# Altium schematic symbol library ucc28180-V03.SchLib: 70 symbols (part 2 of 2)
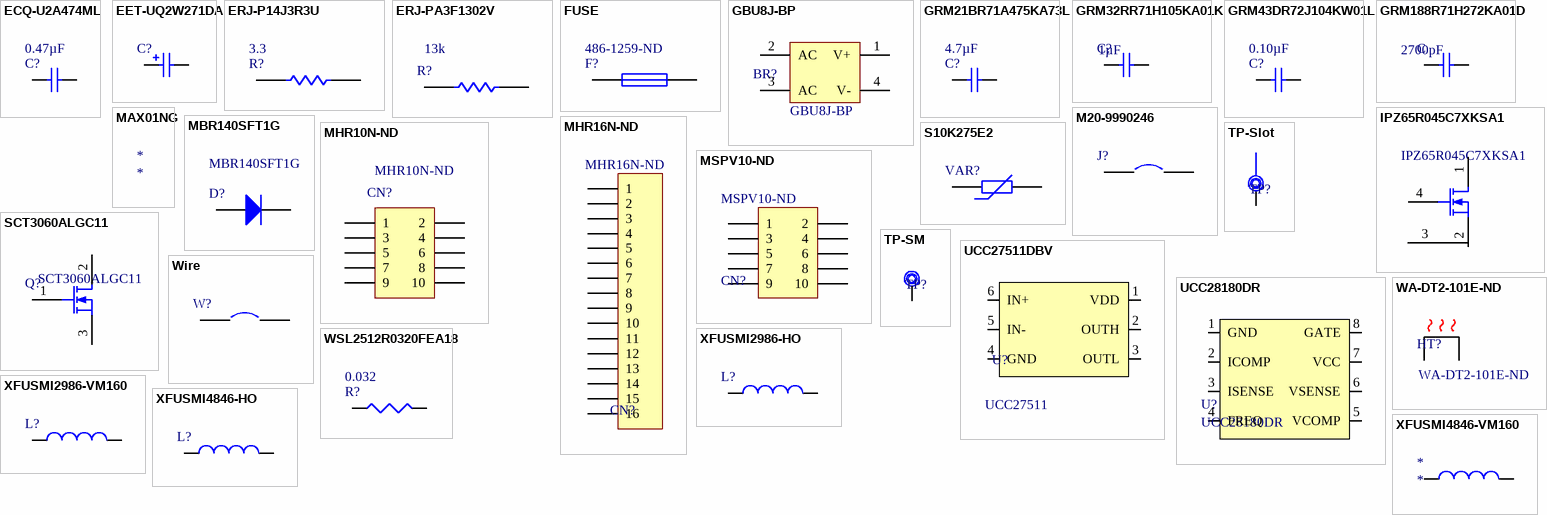
[diagram p2: symbols ECQ-U2A474ML to XFUSMI4846-VM160]

## MHR10N-ND
designator CN?  Supplier Part Number 1: MHR10N-ND  (hidden comment: *)
CONN HEADER 10PS R/A LONG LATCH; Manufacturer: 3M; Manufacturer Part Number: N3793-5302RB; Pitch - Mating: 0.100" (2.54mm); Style: Board to Board or Cable; Shrouding: Shrouded - 4 Wall; Number of Positions: 10; Number of Positions Loaded: All; Contact Length - Mating: 0.240" (6.10mm); Contact Length - Post: 0.112" (2.84mm); Material Flammability Rating: UL94 V-0; Current Rating: 1.75A; Supplier 1: Digi-Key; RoHS: RoHS Compliant; Category: Connectors, Interconnects; Stock 1: 2811; Pricing 1: 1=1.86, 10=1.691, 100=1.449, 500=1.2075, 1000=1.035, 5000=0.9177, 10000=0.897 (USD); Packaging: Bulk; Part Status: Active; Connector Type: Header; Contact Type: Male Pin; Number of Rows: 2; Row Spacing - Mating: 0.100" (2.54mm); Mounting Type: Through Hole, Right Angle; Termination: Solder; Fastening Type: Latch Lock/Eject Hooks, Long; Overall Contact Length: -; Insulation Height: 0.340" (8.64mm); Contact Shape: Square; Contact Finish - Mating: Gold; Contact Finish Thickness - Mating: 30µin (0.76µm); Contact Finish - Post: Tin; Contact Material: Copper Alloy; Insulation Material: Polycyclohexylenedimethylene Terephthalate (PCT), Polyester, Glass Filled; Features: Keying Slot, Mounting Flange; Operating Temperature: -55°C ~ 105°C; Ingress Protection: -; Insulation Color: Black; Voltage Rating: -; Mated Stacking Heights: -; Contact Finish Thickness - Post: 200µin (5.08µm); Applications: -; ComponentLink1URL: http://multimedia.3m.com/mws/media/22448O/3m-four-wall-header-3000-series-100-x-100-ts-0772.pdf; ComponentLink1Description: http://multimedia.3m.com/mws/media/22448O/3m-four-wall-header-3000-series-100-x-100-ts-0772.pdf
footprint 3M15452 (CONN HEADER 10POS DL R/A GOLD)
pins: 1, 2, 3, 4, 5, 6, 7, 8, 9, 10

## MHR16N-ND
designator CN?  Supplier Part Number 1: MHR16N-ND  (hidden comment: *)
CONN HEADER 16PS R/A LONG LATCH; Manufacturer: 3M; Manufacturer Part Number: N3408-5302RB; Pitch - Mating: 0.100" (2.54mm); Style: Board to Board or Cable; Shrouding: Shrouded - 4 Wall; Number of Positions: 16; Number of Positions Loaded: All; Contact Length - Mating: 0.240" (6.10mm); Contact Length - Post: 0.112" (2.84mm); Material Flammability Rating: UL94 V-0; Current Rating: 1.75A; Supplier 1: Digi-Key; RoHS: RoHS Compliant; Category: Connectors, Interconnects; Stock 1: 1152; Pricing 1: 1=2.6, 10=2.496, 100=2.08, 500=1.768, 1000=1.508, 5000=1.352 (USD); Packaging: Tray; Part Status: Active; Connector Type: Header; Contact Type: Male Pin; Number of Rows: 2; Row Spacing - Mating: 0.100" (2.54mm); Mounting Type: Through Hole, Right Angle; Termination: Solder; Fastening Type: Latch Lock/Eject Hooks, Long; Overall Contact Length: -; Insulation Height: 0.340" (8.64mm); Contact Shape: Square; Contact Finish - Mating: Gold; Contact Finish Thickness - Mating: 30µin (0.76µm); Contact Finish - Post: Tin; Contact Material: Copper Alloy; Insulation Material: Polycyclohexylenedimethylene Terephthalate (PCT), Polyester, Glass Filled; Features: Keying Slot, Mounting Flange; Operating Temperature: -55°C ~ 105°C; Ingress Protection: -; Insulation Color: Black; Voltage Rating: -; Mated Stacking Heights: -; Contact Finish Thickness - Post: 200µin (5.08µm); Applications: -; ComponentLink1URL: http://multimedia.3m.com/mws/media/22448O/3m-four-wall-header-3000-series-100-x-100-ts-0772.pdf; ComponentLink1Description: http://multimedia.3m.com/mws/media/22448O/3m-four-wall-header-3000-series-100-x-100-ts-0772.pdf
pins: 1, 2, 3, 4, 5, 6, 7, 8, 9, 10, 11, 12, 13, 14, 15, 16

## MSPV10-ND
designator CN?  Supplier Part Number 1: MSPV10-ND  (hidden comment: *)
CONN SOCKET PCB VERT 10POS .1"; Manufacturer: 3M; Manufacturer Part Number: 8510-4500PL; Connector Type: Receptacle; Style: Board to Board or Cable; Number of Positions: 10; Number of Positions Loaded: All; Pitch - Mating: 0.100" (2.54mm); Contact Length - Post: 0.110" (2.79mm); Material Flammability Rating: UL94 V-0; Current Rating: 1A; Voltage Rating: 1000V; Supplier 1: Digi-Key; RoHS: RoHS Compliant; Category: Connectors, Interconnects; Stock 1: 448; Pricing 1: 1=3.03, 10=2.904, 100=2.42, 500=2.057, 1000=1.7545, 5000=1.573 (USD); Packaging: Bulk; Part Status: Active; Contact Type: Female Socket; Number of Rows: 2; Row Spacing - Mating: 0.100" (2.54mm); Mounting Type: Through Hole; Termination: Kinked Pin, Solder; Fastening Type: Push-Pull; Contact Finish - Mating: Gold; Contact Finish Thickness - Mating: 12µin (0.30µm); Insulation Color: Gray; Insulation Height: 0.425" (10.80mm); Operating Temperature: -55°C ~ 105°C; Contact Finish - Post: Gold; Mated Stacking Heights: -; Ingress Protection: -; Features: Polarizing Key; Applications: -; Insulation Material: Polybutylene Terephthalate (PBT), Glass Filled; Contact Shape: Square; Contact Material: Copper Alloy; Contact Finish Thickness - Post: Flash; ComponentLink1URL: http://multimedia.3m.com/mws/media/22252O/3mtm-100-in-plr-bmskt-100x-100ctrbmp-strt-sldr-tls-ts0413.pdf; ComponentLink1Description: http://multimedia.3m.com/mws/media/22252O/3mtm-100-in-plr-bmskt-100x-100ctrbmp-strt-sldr-tls-ts0413.pdf
footprint MSV10-ND (CONN SOCKET PCB VERT 10POS .1)
pins: 1, 2, 3, 4, 5, 6, 7, 8, 9, 10

## S10K275E2
designator VAR?  (value not drawn)
VARISTOR 430V 3.5KA DISC 10MM; Manufacturer 1: EPCOS (TDK); Manufacturer Part Number 1: S10K275E2; Category 1: Circuit Protection; Varistor Voltage (Min): 387V; Varistor Voltage (Max): 473V; Energy: 55J; Number of Circuits: 1; Maximum AC Volts: 275VAC; Maximum DC Volts: 350VDC; Supplier 1: Digi-Key; Supplier Part Number 1: 495-1433-ND; RoHS 1: RoHS Compliant; Description 1: VARISTOR 430V 3.5KA DISC 10MM; Stock 1: 24715; Pricing 1: 1=0.48, 10=0.4, 100=0.3003, 500=0.22022, 1000=0.17017, 5000=0.14515, 10000=0.13514 (USD); Packaging: Bulk; Part Status: Active; Varistor Voltage (Typ): 430V; Current - Surge: 3.5kA; Mounting Type: Through Hole; Package / Case: Disc 10mm; ComponentLink1URL: http://en.tdk.eu/inf/70/db/var_11/SIOV_Leaded_AdvanceD.pdf; ComponentLink1Description: http://en.tdk.eu/inf/70/db/var_11/SIOV_Leaded_AdvanceD.pdf
footprint S10K275E2 (Varistor)
pins: 1, 2

## SCT3060ALGC11
designator Q?  Manufacturer Part Number 1: SCT3060ALGC11  (hidden comment: *)
MOSFET NCH 650V 39A TO247N; Manufacturer 1: Rohm Semiconductor; Category 1: Discrete Semiconductor Products; FET Type: N-Channel; Current - Continuous Drain (Id) @ 25°C: 39A (Tc); Drive Voltage (Max Rds On,  Min Rds On): 18V; Vgs(th) (Max) @ Id: 5.6V @ 6.67mA; Gate Charge (Qg) (Max) @ Vgs: 58nC @ 18V; Input Capacitance (Ciss) (Max) @ Vds: 852pF @ 500V; Vgs (Max): +22V, -4V; Rds On (Max) @ Id, Vgs: 78 mOhm @ 13A, 18V; Supplier 1: Digi-Key; Supplier Part Number 1: SCT3060ALGC11-ND; RoHS 1: RoHS Compliant; Description 1: MOSFET NCH 650V 39A TO247N; Stock 1: 319; Pricing 1: 1=10.35, 1000=7.1288 (USD); Packaging: Tube; Part Status: Active; Technology: SiCFET (Silicon Carbide); Drain to Source Voltage (Vdss): 650V; FET Feature: -; Operating Temperature: 175°C (TJ); Mounting Type: Through Hole; Supplier Device Package: TO-247N; Package / Case: TO-247-3; ComponentLink1URL: http://www.rohm.com/web/global/datasheet/SCT3060AL; ComponentLink1Description: http://www.rohm.com/web/global/datasheet/SCT3060AL
footprint TO-247N (Transistor)
pins: 1 G, 2 D, 3 S

## TP-Slot
designator TP?  (value not drawn)
footprint TP-Slot (Special Test point-Slot)
pins: 1

## TP-SM
designator TP?  (value not drawn)
footprint TP-SM (Test Point-Surface Mount)
pins: 1

## UCC27511DBV
designator U?  IC name: UCC27511  (hidden comment: *)
footprint SOP6
pins: 1 VDD, 2 OUTH (out), 3 OUTL (out), 4 GND, 5 IN- (in), 6 IN+ (in)

## UCC28180DR
designator U?
IC PFC CTRLR AVERAGE CURR 8SOIC; Manufacturer 1: Texas Instruments; Category 1: Integrated Circuits (ICs); Mode: Continuous Conduction (CCM); Frequency - Switching: 18kHz ~ 250kHz; Current - Startup: 75µA; Voltage - Supply: 21V; Supplier 1: Digi-Key; Supplier Part Number 1: 296-44502-2-ND; Manufacturer Part Number 1: UCC28180DR; RoHS 1: RoHS Compliant; Description 1: IC PFC CTRLR AVERAGE CURR 8SOIC; Stock 1: 5000; Pricing 1: 2500=0.50625 (USD); Packaging: Tape & Reel (TR); Part Status: Active; Operating Temperature: -40°C ~ 125°C; Mounting Type: Surface Mount; Package / Case: 8-SOIC (0.154", 3.90mm Width); Supplier Device Package: 8-SOIC; ComponentLink1URL: http://www.ti.com/lit/ds/symlink/ucc28180.pdf; ComponentLink1Description: http://www.ti.com/lit/ds/symlink/ucc28180.pdf
footprint SOP127P600X175-8N (SOP, 8-Leads, Body 4.90x3.90mm, Pitch 1.27mm, IPC Medium Density)
pins: 1 GND, 2 ICOMP, 3 ISENSE, 4 FREQ, 5 VCOMP, 6 VSENSE, 7 VCC, 8 GATE

## WA-DT2-101E-ND
designator HT?  Supplier Part Number 1: WA-DT2-101E-ND  (hidden comment: *)
Manufacturer: Ohmite; Manufacturer Part Number: WA-DT2-101E; Package Cooled: TO-220, TO-247 (Dual); Attachment Method: Clip and PC Pin; Shape: Rectangular, Fins; Power Dissipation @ Temperature Rise: 4W @ 40°C; Thermal Resistance @ Forced Air Flow: 6.0°C/W @ 200 LFM; Thermal Resistance @ Natural: 5°C/W; Material Finish: Black Anodized; Supplier 1: Digi-Key; RoHS: RoHS Compliant; Category: Fans, Thermal Management; Stock 1: 173; Pricing 1: 1=4.43, 10=4.311, 25=4.194, 50=3.961, 100=3.728, 250=3.495, 500=3.3785, 1000=3.029 (USD); Part Status: Active; Type: Board Level, Vertical; Length: 1.200" (30.48mm); Width: 1.710" (43.43mm); Diameter: -; Height Off Base (Height of Fin): 0.630" (16.00mm); Material: Aluminum; ComponentLink1URL: http://media.digikey.com/pdf/Data%20Sheets/Ohmite%20PDFs/W_Series.pdf; ComponentLink1Description: http://media.digikey.com/pdf/Data%20Sheets/Ohmite%20PDFs/W_Series.pdf
footprint WA-DT2-101E-ND (Heatsunk)

## Wire
designator W?  (value not drawn)
footprint Current Sense Wire
pins: 1, 2

## WSL2512R0320FEA18
designator R?  Resistance (Ohms): 0.032  (hidden comment: *)
RES SMD 0.032 OHM 1% 2W 2512; Manufacturer 1: Vishay Dale; Manufacturer Part Number 1: WSL2512R0320FEA18; Category 1: Resistors; Temperature Coefficient: ±75ppm/°C; Supplier 1: Digi-Key; Supplier Part Number 1: WSLH-.032CT-ND; RoHS 1: RoHS Compliant; Description 1: RES SMD 0.032 OHM 1% 2W 2512; Stock 1: 4983; Pricing 1: 1=1.69, 10=1.5, 25=1.3796, 50=1.2584, 100=1.089, 250=0.9196, 500=0.7744, 1000=0.64372 (USD); Packaging: Cut Tape (CT); Part Status: Active; Tolerance: ±1%; Power (Watts): 2W; Composition: Metal Element; Features: Automotive AEC-Q200, Current Sense, Moisture Resistant, Pulse Withstanding; Operating Temperature: -65°C ~ 170°C; Package / Case: 2512 (6432 Metric); Supplier Device Package: 2512; Size / Dimension: 0.250" L x 0.125" W (6.35mm x 3.18mm); Height - Seated (Max): 0.035" (0.89mm); Number of Terminations: 2; Failure Rate: -; ComponentLink1URL: http://www.vishay.com/docs/31057/wslhigh.pdf; ComponentLink1Description: http://www.vishay.com/docs/31057/wslhigh.pdf
footprint RES2512
pins: 1, 2

## XFUSMI2986-HO
designator L?  (value not drawn)
footprint XFUSMI2986-HO (Boost Inductor)
pins: 1, 2

## XFUSMI2986-VM160
designator L?  (value not drawn)
footprint XFUSMI2986-VM-160 (Boost Inductor)
pins: 1, 2

## XFUSMI4846-HO
designator L?  (value not drawn)
footprint XFUSMI4846-HO (Boost Inductor)
pins: 1, 2

## XFUSMI4846-VM160
designator *
footprint XFUSMI4846-VM-160 (Boost Inductor)
pins: 1, 2